# Altium footprint library LQFP.PcbLib: 4 footprints
Each footprint in its own frame and in the unit in brackets; x right, y up, seen from the top. Pads: shape width x height; smd on the part's side, far side on the other; paste and mask are expansions set on the pad; w line width, h text height; cw(c..) or ccw(c..) is an arc to the next point about the centre after c.
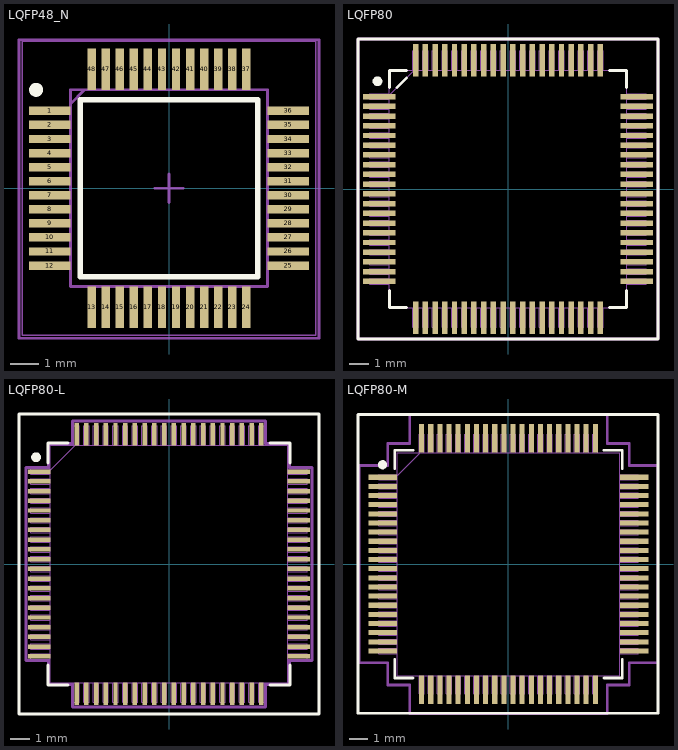
[diagram p0: the footprints below, top view; thin cyan lines are the x and y axes]

## LQFP48_N [mm]
pads (48):
  rect 1.475x0.3 smd: 1(-4.238,2.75) 2(-4.238,2.25) 3(-4.238,1.75) 4(-4.238,1.25) 5(-4.238,0.75) 6(-4.238,0.25) 7(-4.238,-0.25) 8(-4.238,-0.75) 9(-4.238,-1.25) 10(-4.238,-1.75) 11(-4.238,-2.25) 12(-4.238,-2.75) 25(4.238,-2.75) 26(4.238,-2.25) 27(4.238,-1.75) 28(4.238,-1.25) 29(4.238,-0.75) 30(4.238,-0.25) 31(4.238,0.25) 32(4.238,0.75) 33(4.238,1.25) 34(4.238,1.75) 35(4.238,2.25) 36(4.238,2.75)
  rect 0.3x1.475 smd: 13(-2.75,-4.238) 14(-2.25,-4.238) 15(-1.75,-4.238) 16(-1.25,-4.238) 17(-0.75,-4.238) 18(-0.25,-4.238) 19(0.25,-4.238) 20(0.75,-4.238) 21(1.25,-4.238) 22(1.75,-4.238) 23(2.25,-4.238) 24(2.75,-4.238) 37(2.75,4.238) 38(2.25,4.238) 39(1.75,4.238) 40(1.25,4.238) 41(0.75,4.238) 42(0.25,4.238) 43(-0.25,4.238) 44(-0.75,4.238) 45(-1.25,4.238) 46(-1.75,4.238) 47(-2.25,4.238) 48(-2.75,4.238)
Top Overlay:
  circle w0.25: c-4.725,3.5 r0.125
  lines w0.2: -3.15,-3.15 3.15,-3.15 3.15,3.15 -3.15,3.15 -3.15,-3.15
Mechanical 15:
  lines w0.1: -3.5,3 -3,3.5 ; -0.508,0 0.508,0 ; 0,-0.508 0,0.508 ; -5.334,-5.334 -5.334,5.278 5.334,5.278 5.334,-5.334 -5.334,-5.334 ; -3.5,-3.5 -3.5,3.5 3.5,3.5 3.5,-3.5 -3.5,-3.5
Mechanical 20:
  lines w0.05: -5.225,-5.225 -5.225,5.225 5.225,5.225 5.225,-5.225 -5.225,-5.225
3D body "User Library-Quad50M48.STEP": height 1.56, standoff 0, extent -4.5,-4.437 4.5,4.564

## LQFP80 [mil]
pads (80):
  rect 66x11 smd paste-33 mask+5: 1(-260.5,187.01) 2(-260.5,167.32) 3(-260.5,147.64) 4(-260.5,127.95) 5(-260.5,108.27) 6(-260.5,88.58) 7(-260.5,68.9) 8(-260.5,49.21) 9(-260.5,29.53) 10(-260.5,9.84) 11(-260.5,-9.84) 12(-260.5,-29.53) 13(-260.5,-49.21) 14(-260.5,-68.9) 15(-260.5,-88.58) 16(-260.5,-108.27) 17(-260.5,-127.95) 18(-260.5,-147.64) 19(-260.5,-167.32) 20(-260.5,-187.01) 41(260.5,-187.01) 42(260.5,-167.32) 43(260.5,-147.64) 44(260.5,-127.95) 45(260.5,-108.27) 46(260.5,-88.58) 47(260.5,-68.9) 48(260.5,-49.21) 49(260.5,-29.53) 50(260.5,-9.84) 51(260.5,9.84) 52(260.5,29.53) 53(260.5,49.21) 54(260.5,68.9) 55(260.5,88.58) 56(260.5,108.27) 57(260.5,127.95) 58(260.5,147.64) 59(260.5,167.32) 60(260.5,187.01)
  rect 11x66 smd paste-33 mask+5: 21(-187.01,-260.5) 22(-167.32,-260.5) 23(-147.64,-260.5) 24(-127.95,-260.5) 25(-108.27,-260.5) 26(-88.58,-260.5) 27(-68.9,-260.5) 28(-49.21,-260.5) 29(-29.53,-260.5) 30(-9.84,-260.5) 31(9.84,-260.5) 32(29.53,-260.5) 33(49.21,-260.5) 34(68.9,-260.5) 35(88.58,-260.5) 36(108.27,-260.5) 37(127.95,-260.5) 38(147.64,-260.5) 39(167.32,-260.5) 40(187.01,-260.5) 61(187.01,260.5) 62(167.32,260.5) 63(147.64,260.5) 64(127.95,260.5) 65(108.27,260.5) 66(88.58,260.5) 67(68.9,260.5) 68(49.21,260.5) 69(29.53,260.5) 70(9.84,260.5) 71(-9.84,260.5) 72(-29.53,260.5) 73(-49.21,260.5) 74(-68.9,260.5) 75(-88.58,260.5) 76(-108.27,260.5) 77(-127.95,260.5) 78(-147.64,260.5) 79(-167.32,260.5) 80(-187.01,260.5)
Top Overlay:
  circle w9.84: c-264,218 r4.92
  lines w6: -240,-205.61 -240,-240 -205.61,-240 ; -240,205.61 -240,240 -205.61,240 ; -224.7,205.3 -205.3,224.7 ; 205.61,-240 240,-240 240,-205.61 ; 205.61,240 240,240 240,205.61 ; -303.5,-303.5 -303.5,303.5 303.5,303.5 303.5,-303.5 -303.5,-303.5
Mechanical 13:
  drawing of 325 lines, arcs and shapes, not listed
  text "*" at -331,186.85 h50
Mechanical 15:
  lines w6: -303.5,-303.5 -303.5,303.5 303.5,303.5 303.5,-303.5 -303.5,-303.5
3D body "PN80.step": height 63.11, standoff 0, extent -279.49,-279.49 279.49,279.49

## LQFP80-L [mil]
pads (80):
  rect 45.5x9 smd: 1(-262.75,187.01) 2(-262.75,167.32) 3(-262.75,147.64) 4(-262.75,127.95) 5(-262.75,108.27) 6(-262.75,88.58) 7(-262.75,68.9) 8(-262.75,49.21) 9(-262.75,29.53) 10(-262.75,9.84) 11(-262.75,-9.84) 12(-262.75,-29.53) 13(-262.75,-49.21) 14(-262.75,-68.9) 15(-262.75,-88.58) 16(-262.75,-108.27) 17(-262.75,-127.95) 18(-262.75,-147.64) 19(-262.75,-167.32) 20(-262.75,-187.01) 41(262.75,-187.01) 42(262.75,-167.32) 43(262.75,-147.64) 44(262.75,-127.95) 45(262.75,-108.27) 46(262.75,-88.58) 47(262.75,-68.9) 48(262.75,-49.21) 49(262.75,-29.53) 50(262.75,-9.84) 51(262.75,9.84) 52(262.75,29.53) 53(262.75,49.21) 54(262.75,68.9) 55(262.75,88.58) 56(262.75,108.27) 57(262.75,127.95) 58(262.75,147.64) 59(262.75,167.32) 60(262.75,187.01)
  rect 9x45.5 smd: 21(-187.01,-262.75) 22(-167.32,-262.75) 23(-147.64,-262.75) 24(-127.95,-262.75) 25(-108.27,-262.75) 26(-88.58,-262.75) 27(-68.9,-262.75) 28(-49.21,-262.75) 29(-29.53,-262.75) 30(-9.84,-262.75) 31(9.84,-262.75) 32(29.53,-262.75) 33(49.21,-262.75) 34(68.9,-262.75) 35(88.58,-262.75) 36(108.27,-262.75) 37(127.95,-262.75) 38(147.64,-262.75) 39(167.32,-262.75) 40(187.01,-262.75) 61(187.01,262.75) 62(167.32,262.75) 63(147.64,262.75) 64(127.95,262.75) 65(108.27,262.75) 66(88.58,262.75) 67(68.9,262.75) 68(49.21,262.75) 69(29.53,262.75) 70(9.84,262.75) 71(-9.84,262.75) 72(-29.53,262.75) 73(-49.21,262.75) 74(-68.9,262.75) 75(-88.58,262.75) 76(-108.27,262.75) 77(-127.95,262.75) 78(-147.64,262.75) 79(-167.32,262.75) 80(-187.01,262.75)
Top Overlay:
  circle w9.84: c-269,216 r4.92
  lines w6: -245,-204.61 -245,-245 -204.61,-245 ; -245,204.61 -245,245 -204.61,245 ; 204.61,-245 245,-245 245,-204.61 ; 204.61,245 245,245 245,204.61 ; -303.5,-303.5 -303.5,303.5 303.5,303.5 303.5,-303.5 -303.5,-303.5
Mechanical 13:
  drawing of 325 lines, arcs and shapes, not listed
  text "*" at -237.5,171.85 h50
Mechanical 15:
  lines w6: -289.5,-195.51 -289.5,195.51 -244,195.51 -244,244 -195.51,244 -195.51,289.5 195.51,289.5 195.51,244 244,244 244,195.51 289.5,195.51 289.5,-195.51 244,-195.51 244,-244 195.51,-244 195.51,-289.5 -195.51,-289.5 -195.51,-244 -244,-244 -244,-195.51 -289.5,-195.51
3D body "PN80.step": height 63.11, standoff 0, extent -279.49,-279.49 279.49,279.49

## LQFP80-M [mil]
pads (80):
  rect 61.5x11 smd: 1(-270.75,187.01) 2(-270.75,167.32) 3(-270.75,147.64) 4(-270.75,127.95) 5(-270.75,108.27) 6(-270.75,88.58) 7(-270.75,68.9) 8(-270.75,49.21) 9(-270.75,29.53) 10(-270.75,9.84) 11(-270.75,-9.84) 12(-270.75,-29.53) 13(-270.75,-49.21) 14(-270.75,-68.9) 15(-270.75,-88.58) 16(-270.75,-108.27) 17(-270.75,-127.95) 18(-270.75,-147.64) 19(-270.75,-167.32) 20(-270.75,-187.01) 41(270.75,-187.01) 42(270.75,-167.32) 43(270.75,-147.64) 44(270.75,-127.95) 45(270.75,-108.27) 46(270.75,-88.58) 47(270.75,-68.9) 48(270.75,-49.21) 49(270.75,-29.53) 50(270.75,-9.84) 51(270.75,9.84) 52(270.75,29.53) 53(270.75,49.21) 54(270.75,68.9) 55(270.75,88.58) 56(270.75,108.27) 57(270.75,127.95) 58(270.75,147.64) 59(270.75,167.32) 60(270.75,187.01)
  rect 11x61.5 smd: 21(-187.01,-270.75) 22(-167.32,-270.75) 23(-147.64,-270.75) 24(-127.95,-270.75) 25(-108.27,-270.75) 26(-88.58,-270.75) 27(-68.9,-270.75) 28(-49.21,-270.75) 29(-29.53,-270.75) 30(-9.84,-270.75) 31(9.84,-270.75) 32(29.53,-270.75) 33(49.21,-270.75) 34(68.9,-270.75) 35(88.58,-270.75) 36(108.27,-270.75) 37(127.95,-270.75) 38(147.64,-270.75) 39(167.32,-270.75) 40(187.01,-270.75) 61(187.01,270.75) 62(167.32,270.75) 63(147.64,270.75) 64(127.95,270.75) 65(108.27,270.75) 66(88.58,270.75) 67(68.9,270.75) 68(49.21,270.75) 69(29.53,270.75) 70(9.84,270.75) 71(-9.84,270.75) 72(-29.53,270.75) 73(-49.21,270.75) 74(-68.9,270.75) 75(-88.58,270.75) 76(-108.27,270.75) 77(-127.95,270.75) 78(-147.64,270.75) 79(-167.32,270.75) 80(-187.01,270.75)
Top Overlay:
  circle w9.84: c-271,214 r4.92
  lines w6: -245,-205.61 -245,-245 -205.61,-245 ; -245,205.61 -245,245 -205.61,245 ; 205.61,-245 245,-245 245,-205.61 ; 205.61,245 245,245 245,205.61 ; -324,-321 322,-321 322,322 -324,322 -324,-321
Mechanical 13:
  drawing of 325 lines, arcs and shapes, not listed
  text "*" at -237.5,171.85 h50
Mechanical 15:
  lines w6: -321.5,-212.51 -260,-212.51 -260,-260 -212.51,-260 -212.51,-321.5 212.51,-321.5 212.51,-260 260,-260 260,-212.51 321.5,-212.51 321.5,212.51 260,212.51 260,260 212.51,260 212.51,321.5 -212.51,321.5 -212.51,260 -260,260 -260,212.51 -321.5,212.51 -321.5,-212.51
3D body "PN80.step": height 63.11, standoff 0, extent -279.49,-279.49 279.49,279.49